# EAGLE library part 6V6 (library wheat)
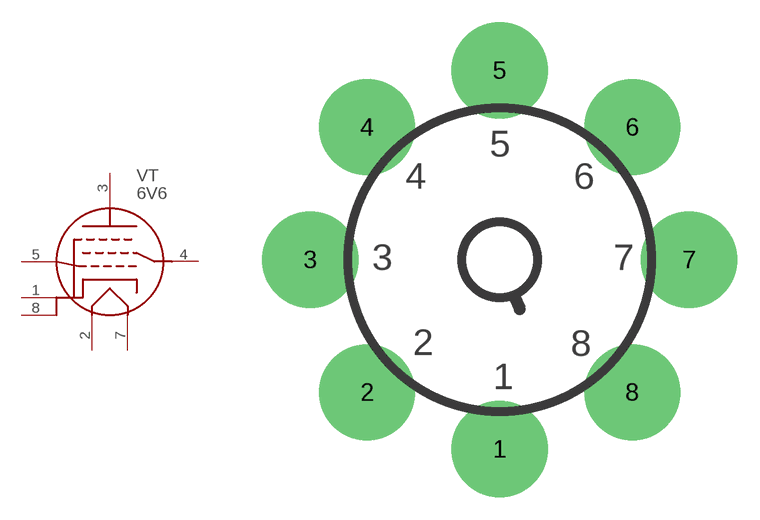
[diagram p142: symbol with the pads of OCTAL_BOTTOM; footprint OCTAL_BOTTOM]

Designator prefix VT

## 6V6  [OCTAL_BOTTOM]
1  K1  pas
2  H1  pas
3  P  pas
4  G2  pas
5  G1  pas
7  H2  pas
8  K2  pas

## Footprint OCTAL_BOTTOM (pad centres in mm)
TUBE SOCKET, OCTAL, PCB, BOTTOM SIDE
drill 2.54 pad 6.452: 1 0,-12.7; 2 -8.89,-8.89; 3 -12.7,0; 4 -8.89,8.89; 5 0,12.7; 6 8.89,8.89; 7 12.7,0; 8 8.89,-8.89